# EAGLE library part MOTOR-DRIVER-MODULE-L9110S (library 00 MyModules)
MOTOR-DRIVER-MODULE-9110S motor driver 1xStepper 2xDCmotors VCC=2.5-12V Imax=800mA (2A peak)
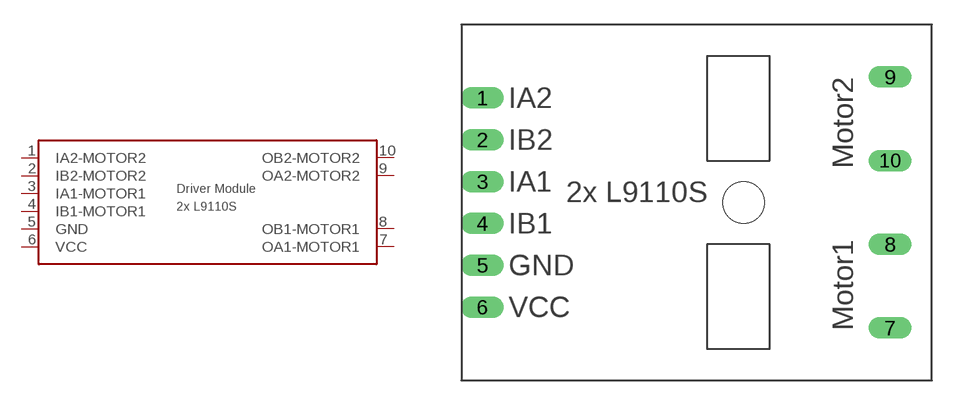
[diagram p0: symbol with the pads of MOTOR-DRIVER-MODULE-L9110S; footprint MOTOR-DRIVER-MODULE-L9110S]

Designator prefix -

## MOTOR-DRIVER-MODULE-L9110S  [MOTOR-DRIVER-MODULE-L9110S]
1  IA2-MOTOR2  in
2  IB2-MOTOR2  in
3  IA1-MOTOR1  in
4  IB1-MOTOR1  in
5  GND  pwr
6  VCC  pwr
7  OA1-MOTOR1  out
8  OB1-MOTOR1  out
9  OA2-MOTOR2  out
10  OB2-MOTOR2  out

## Footprint MOTOR-DRIVER-MODULE-L9110S (pad centres in mm)
drill 0.8 long: 1 -11.748,5.715; 2 -11.748,3.175; 3 -11.748,0.635; 4 -11.748,-1.905; 5 -11.748,-4.445; 6 -11.748,-6.985; 7 13.018,-8.255; 8 13.018,-3.175; 9 13.018,6.985; 10 13.018,1.905
hole 2.5 at 4.128,-0.635